# EAGLE library part TPS6208X (library firefly)
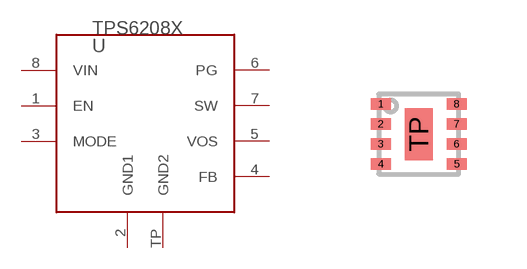
[diagram p11: symbol with the pads of S-PWSON-N8; footprint S-PWSON-N8]

Designator prefix -

## TPS6208X  [S-PWSON-N8]
1  EN
2  GND1
3  MODE
4  FB
5  VOS
6  PG
7  SW
8  VIN
TP  GND2

## Footprint S-PWSON-N8 (pad centres in mm)
smd 0.5 x 0.28: 1 -0.95,0.75; 2 -0.95,0.25; 3 -0.95,-0.25; 4 -0.95,-0.75; 5 0.95,-0.75; 6 0.95,-0.25; 7 0.95,0.25; 8 0.95,0.75
smd 0.7 x 1.3: TP 0,0